# Altium footprint library KC_Amp.PCBLIB: 31 footprints (part 1 of 2)
Each footprint in its own frame and in the unit in brackets; x right, y up, seen from the top. Pads: shape width x height; smd on the part's side, far side on the other; paste and mask are expansions set on the pad; w line width, h text height; cw(c..) or ccw(c..) is an arc to the next point about the centre after c.
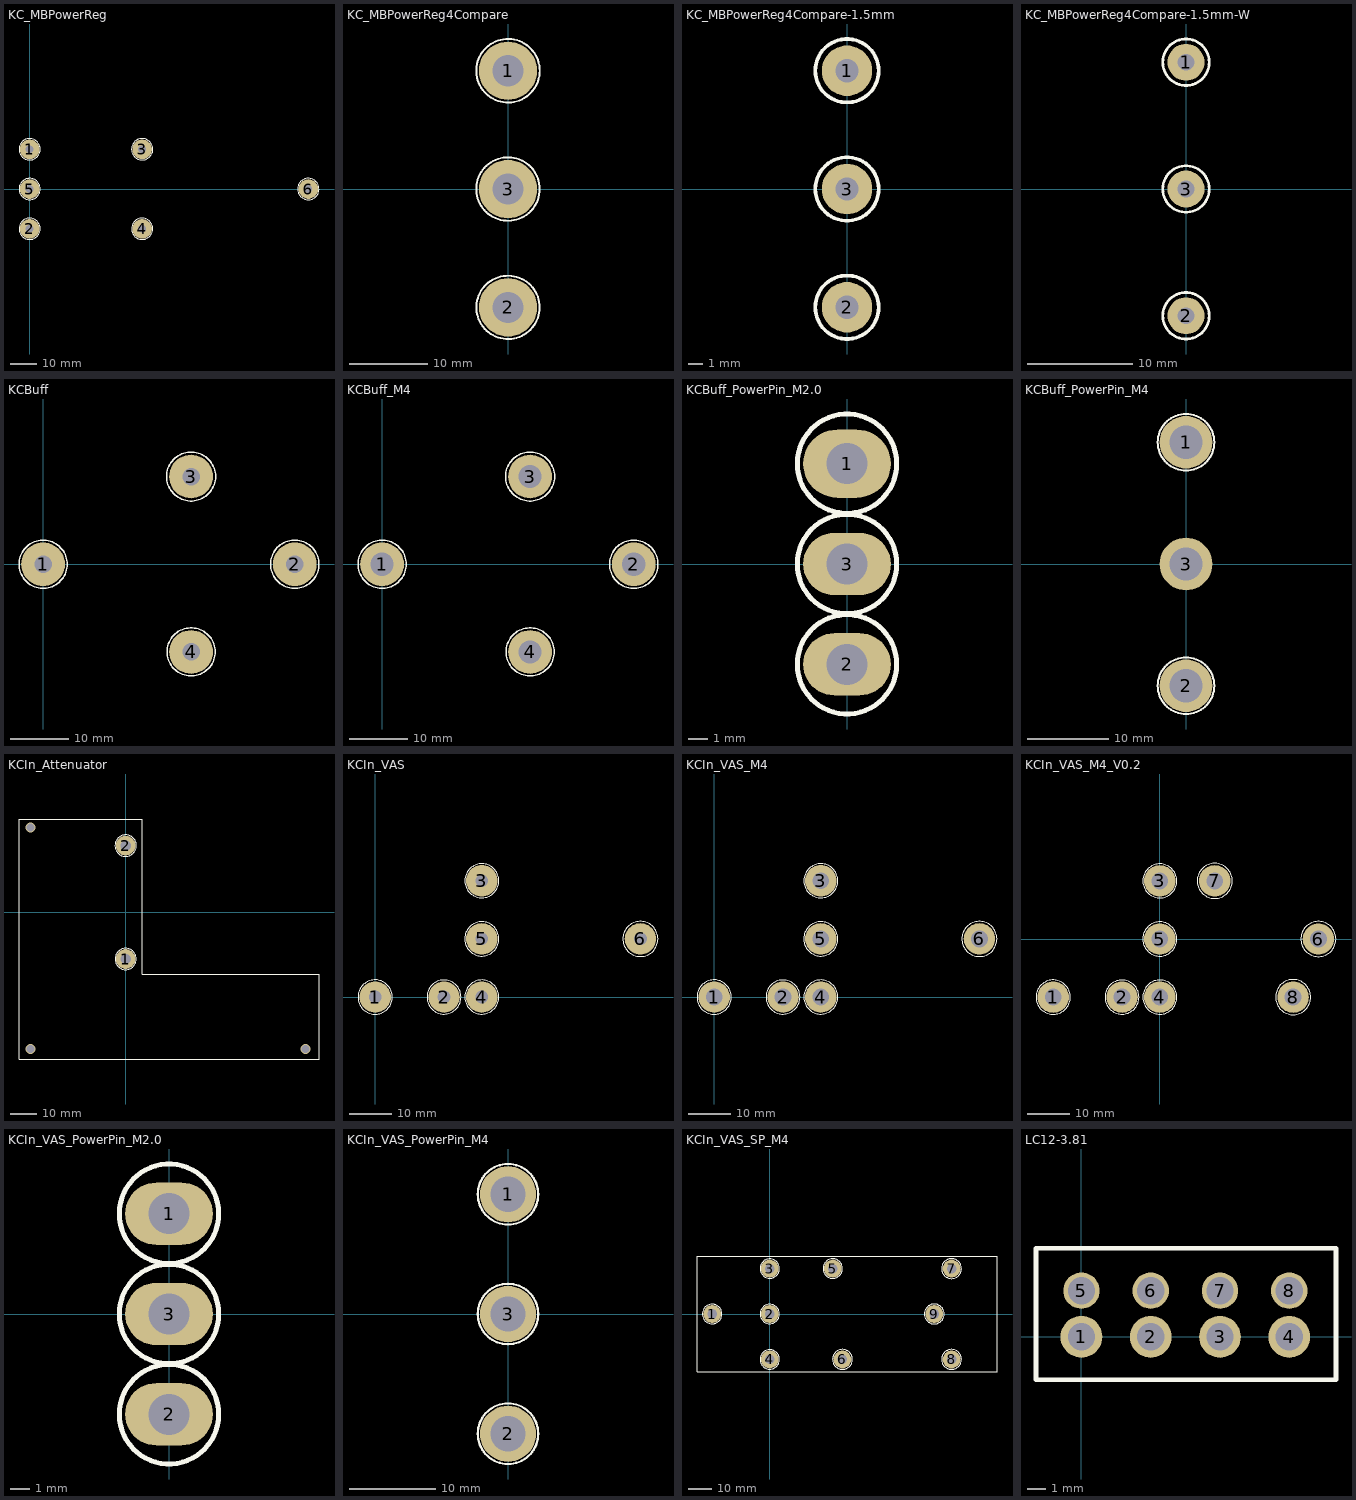
[diagram p0: the footprints below, top view; thin cyan lines are the x and y axes]

## KC_MBPowerReg [mm]
pads (6):
  round 7.5 hole 3: 1(0,15.2) 2(0,-15.2) 3(43,15.2) 4(43,-15.2) 5(0,0) 6(106.5,0)
Top Overlay:
  circle w0.254: c43,-15.2 r4.066
  circle w0.254: c43,15.2 r4.096
  circle w0.254: c106.5,0 r4.09
  circle w0.254: c0,15.2 r4.078
  circle w0.254: c0,-15.2 r4.064
  circle w0.254: c0,0 r4.072

## KC_MBPowerReg4Compare [mm]
pads (3):
  round 7.5 hole 4: 1(0,15.2) 2(0,-15.2) 3(0,0)
Top Overlay:
  circle w0.254: c0,15.2 r4.078
  circle w0.254: c0,-15.2 r4.064
  circle w0.254: c0,0 r4.072

## KC_MBPowerReg4Compare-1.5mm [mm] "1.5mm hole size"
pads (3):
  round 3.5 hole 1.6: 1(0,8.2) 2(0,-8.2) 3(0,0)
Top Overlay:
  circle w0.254: c0,8.2 r2.2
  circle w0.254: c0,-8.2 r2.2
  circle w0.254: c0,0 r2.2

## KC_MBPowerReg4Compare-1.5mm-W [mm] "1.5mm hole size"
pads (3):
  round 3.5 hole 1.6: 1(0,12) 2(0,-12) 3(0,0)
Top Overlay:
  circle w0.254: c0,0 r2.2
  circle w0.254: c0,-12 r2.2
  circle w0.254: c0,12 r2.2

## KCBuff [mm]
pads (4):
  round 7.5 hole 3: 1(0,0) 2(43.199,0) 3(25.397,15.05) 4(25.397,-15.05)
Top Overlay:
  circle w0.254: c25.397,-15.05 r4.13
  circle w0.254: c43.199,0 r4.151
  circle w0.254: c25.397,15.05 r4.207
  circle w0.254: c0,0 r4.135

## KCBuff_M4 [mm]
pads (4):
  round 7.5 hole 4: 1(0,0) 2(43.199,0) 3(25.397,15.05) 4(25.397,-15.05)
Top Overlay:
  circle w0.254: c25.397,-15.05 r4.13
  circle w0.254: c43.199,0 r4.151
  circle w0.254: c25.397,15.05 r4.207
  circle w0.254: c0,0 r4.135

## KCBuff_PowerPin_M2.0 [mm]
pads (3):
  oval 4.5x3.5 hole 2.1: 1(0,5.15)
  oval 4.5x3.2 hole 2.1: 2(0,-5.15) 3(0,0)
Top Overlay:
  circle w0.254: c0,5.15 r2.55
  circle w0.254: c0,-5.15 r2.55
  circle w0.254: c0,0 r2.55

## KCBuff_PowerPin_M4 [mm]
pads (3):
  round 6.5 hole 4.1: 1(0,15.05) 2(0,-15.05) 3(0,0)
Top Overlay:
  circle w0.254: c0,-15.05 r3.5
  circle w0.254: c0,15.05 r3.5

## KCIn_Attenuator [mm]
pads (2):
  round 7.5 hole 4: 1(0,-17.78) 2(0,25.4)
via 68.58,-52.07 diameter 3.81 hole 3.048
via -36.322,-52.07 diameter 3.81 hole 3.048
via -36.322,32.258 diameter 3.81 hole 3.048
Top Overlay:
  circle w0.254: c0,-17.78 r4.054
  circle w0.254: c0,25.4 r4.091
  lines w0.254: -40.64,-55.88 73.66,-55.88 73.66,-23.622 6.35,-23.622 6.35,35.56 -40.64,35.56 -40.64,-55.88

## KCIn_VAS [mm]
pads (6):
  round 7.5 hole 3: 1(0,0) 2(16.396,0) 3(25.4,27.686) 4(25.4,0) 5(25.4,13.843) 6(63.182,13.843)
Top Overlay:
  circle w0.254: c25.4,27.686 r4.046
  circle w0.254: c0,0 r4.091
  circle w0.254: c16.396,0 r4.054
  circle w0.254: c25.4,0 r4.064
  circle w0.254: c63.182,13.843 r4.176
  circle w0.254: c25.4,13.843 r4.082

## KCIn_VAS_M4 [mm]
pads (6):
  round 7.5 hole 4: 1(0,0) 2(16.396,0) 3(25.4,27.686) 4(25.4,0) 5(25.4,13.843) 6(63.182,13.843)
Top Overlay:
  circle w0.254: c25.4,13.843 r4.082
  circle w0.254: c63.182,13.843 r4.176
  circle w0.254: c25.4,0 r4.064
  circle w0.254: c16.396,0 r4.054
  circle w0.254: c0,0 r4.091
  circle w0.254: c25.4,27.686 r4.046

## KCIn_VAS_M4_V0.2 [mm]
pads (8):
  round 7.5 hole 4: 1(-25.4,-13.843) 2(-9.004,-13.843) 3(0,13.843) 4(0,-13.843) 5(0,0) 6(37.782,0) 7(13.081,13.843) 8(31.75,-13.843)
Top Overlay:
  circle w0.254: c0,0 r4.082
  circle w0.254: c37.782,0 r4.176
  circle w0.254: c0,-13.843 r4.064
  circle w0.254: c-9.004,-13.843 r4.054
  circle w0.254: c-25.4,-13.843 r4.091
  circle w0.254: c0,13.843 r4.046
  circle w0.254: c13.081,13.843 r4.176
  circle w0.254: c31.75,-13.843 r4.176

## KCIn_VAS_PowerPin_M2.0 [mm]
pads (3):
  oval 4.5x3.2 hole 2.1: 1(0,5.143) 2(0,-5.143) 3(0,0)
Top Overlay:
  circle w0.254: c0,0 r2.55
  circle w0.254: c0,-5.143 r2.55
  circle w0.254: c0,5.143 r2.55

## KCIn_VAS_PowerPin_M4 [mm]
pads (3):
  round 6.5 hole 4.1: 1(0,13.843) 2(0,-13.843) 3(0,0)
Top Overlay:
  circle w0.254: c0,13.843 r3.5
  circle w0.254: c0,-13.843 r3.5
  circle w0.254: c0,0 r3.5

## KCIn_VAS_SP_M4 [mm]
pads (9):
  round 7.5 hole 4: 1(-24.13,0) 2(0,0) 3(0,19.05) 4(0,-19.05) 5(26.416,19.05) 6(30.48,-19.05) 7(76.2,19.05) 8(76.2,-19.05) 9(68.961,0)
Top Overlay:
  circle w0.254: c68.961,0 r4.176
  circle w0.254: c76.2,-19.05 r4.176
  circle w0.254: c76.2,19.05 r4.176
  circle w0.254: c0,19.05 r4.046
  circle w0.254: c-24.13,0 r4.091
  circle w0.254: c0,0 r4.054
  circle w0.254: c0,-19.05 r4.064
  circle w0.254: c30.48,-19.05 r4.176
  circle w0.254: c26.416,19.05 r4.082
  lines w0.254: -30.48,-24.13 -30.48,24.13 95.25,24.13 95.25,-24.13 -30.48,-24.13

## LC12-3.81 [mm] "Double Pole Switch 6 Pin"
height 14
pads (8):
  round 2.3 hole 1.5: 1(0,0) 2(3.81,0) 3(7.62,0) 4(11.43,0)
  round 2 hole 1.5: 5(0,2.54) 6(3.81,2.54) 7(7.62,2.54) 8(11.43,2.54)
Top Overlay:
  lines w0.254: -2.5,-2.362 -2.5,4.877 14,4.877 14,-2.362 -2.5,-2.362